# EAGLE library part TPS7A6033-Q1 (library TI_TPS)
TPS7A6033-Q1
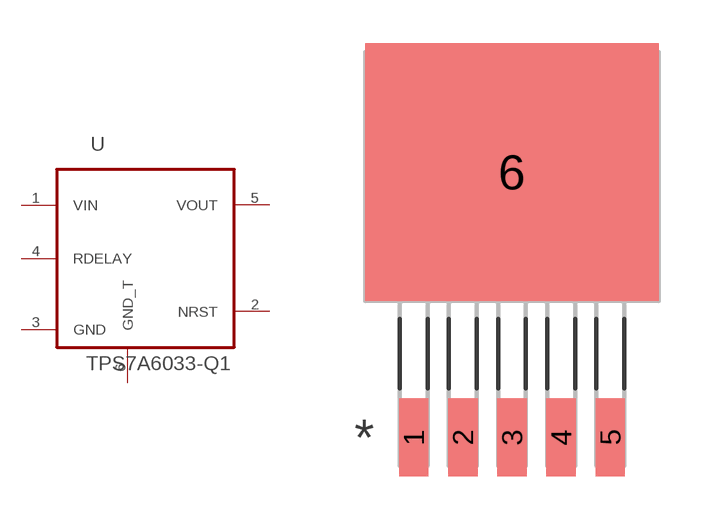
[diagram p5: symbol with the pads of TO-263-5; footprint TO-263-5]

Designator prefix -

## TPS7A6033-Q1  [TO-263-5]
1  VIN  pwr
2  NRST  out
3  GND  pas
4  RDELAY  out
5  VOUT  out
6  GND_T  pas

## Footprint TO-263-5 (pad centres in mm)
smd 1.016 x 2.692: 1 -3.404,-7.772; 2 -1.702,-7.772; 3 0,-7.772; 4 1.702,-7.772; 5 3.404,-7.772
smd 10.16 x 8.941: 6 0,1.422